# Altium footprint library TerminalBlock_Phoenix.PcbLib: 114 footprints (part 4 of 8)
Each footprint in its own frame and in the unit in brackets; x right, y up, seen from the top. Pads: shape width x height; smd on the part's side, far side on the other; paste and mask are expansions set on the pad; w line width, h text height; cw(c..) or ccw(c..) is an arc to the next point about the centre after c.
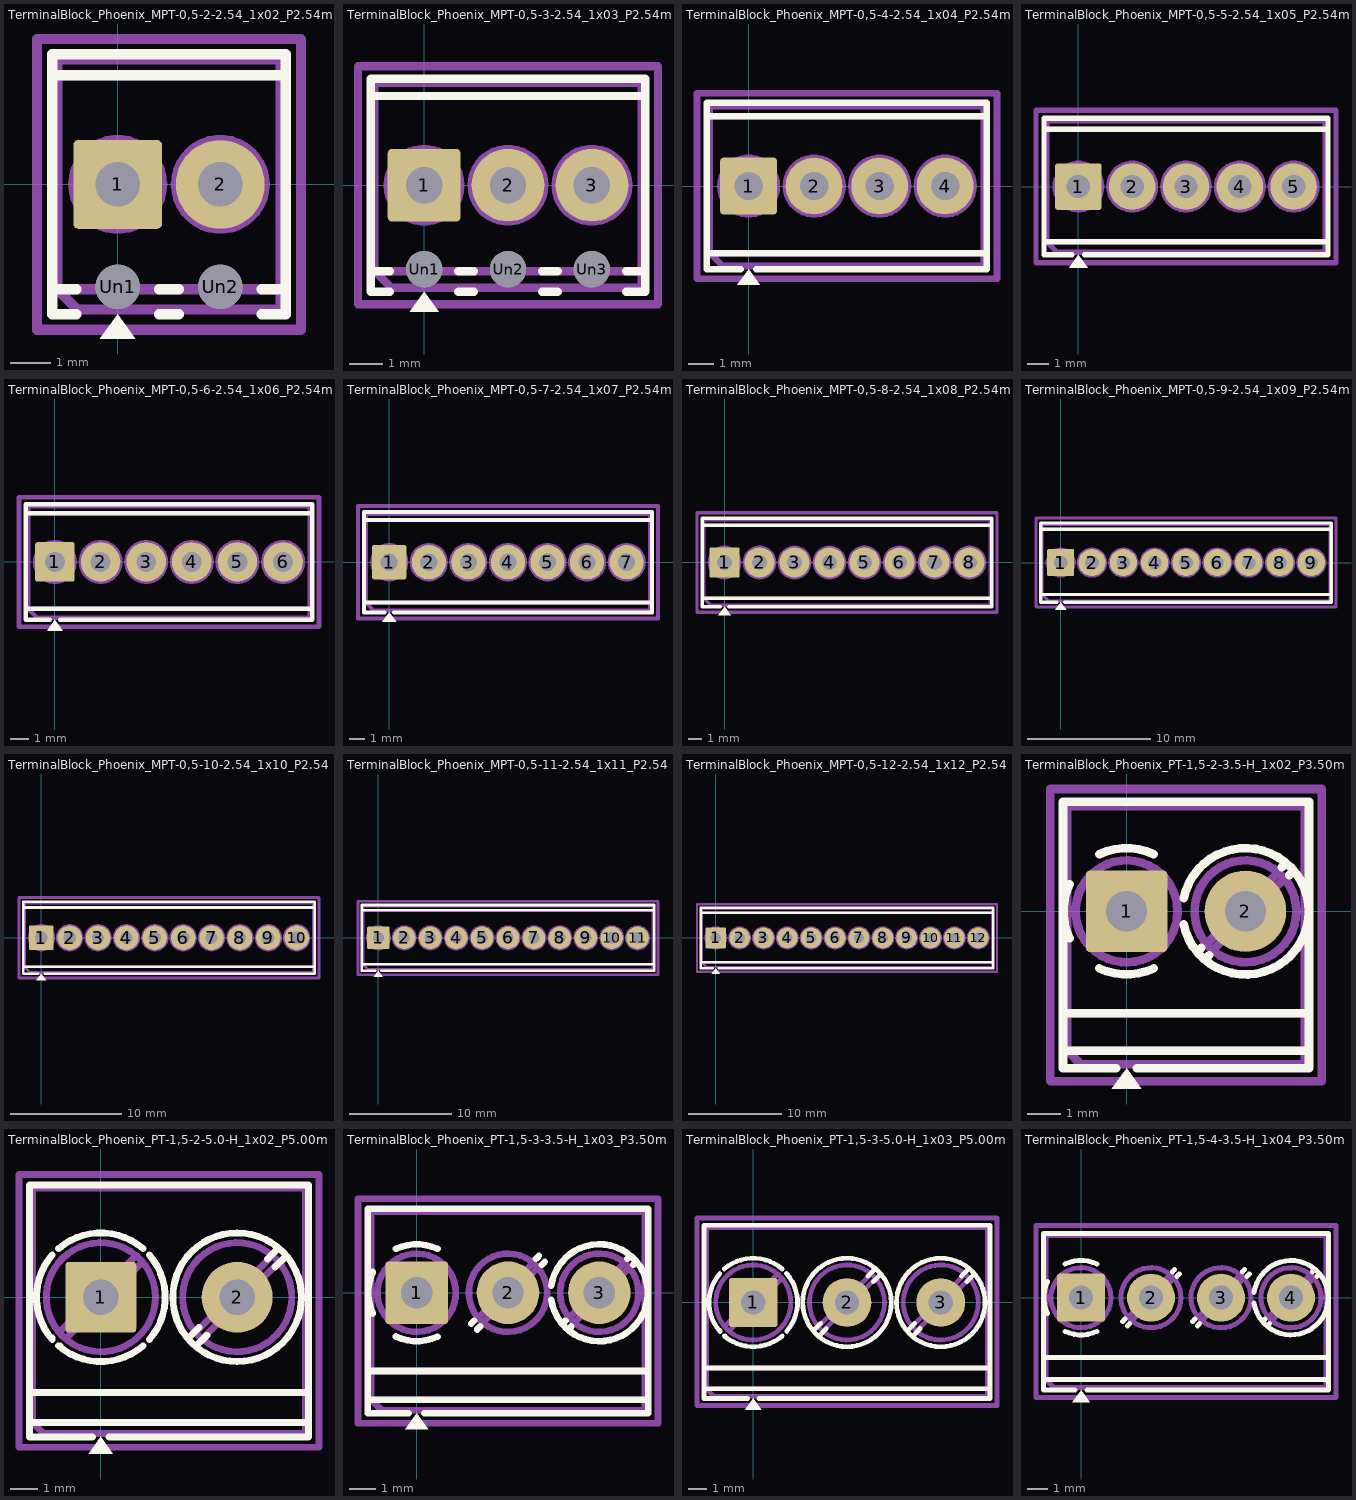
[diagram p3: the footprints below, top view; thin cyan lines are the x and y axes]

## TerminalBlock_Phoenix_MPT-0,5-2-2.54_1x02_P2.54mm_Horizontal [mm]
pads (4):
  rrect11% 2.2x2.2 hole 1.1: 1(0,0)
  round 2.2 hole 1.1: 2(2.54,0)
  round 1.1 hole 1.1: Un1(0,-2.54) Un2(2.54,-2.54)
F.SilkS:
  region: 0.44,-3.83 -0.44,-3.83 0,-3.22
  lines w0.254: -1.62,-2.6 -1.03,-2.6 ; -1.62,2.7 4.16,2.7 ; -1.03,-3.22 -1.62,-3.22 -1.62,3.22 4.16,3.22 4.16,-3.22 3.57,-3.22 ; 1.03,-3.22 1.51,-3.22 ; 1.03,-2.6 1.51,-2.6 ; 3.57,-2.6 4.16,-2.6
F.CrtYd:
  lines w0.254: -2,-3.6 -2,3.6 4.54,3.6 4.54,-3.6 -2,-3.6
F.Fab:
  circle w0.254: c0,0 r1.1
  circle w0.254: c2.54,0 r1.1
  lines w0.254: -1.5,2.7 4.04,2.7 ; -0.834,-0.7 0.7,0.834 ; -0.7,-0.834 0.834,0.7 ; 1.706,-0.7 3.24,0.834 ; 1.84,-0.834 3.374,0.7 ; 4.04,-2.6 -1.5,-2.6 ; -1.5,-2.6 -1.5,3.1 4.04,3.1 4.04,-3.1 -1,-3.1 -1.5,-2.6
  text "'.Designator'" at -0.169,-2.398 h1

## TerminalBlock_Phoenix_MPT-0,5-3-2.54_1x03_P2.54mm_Horizontal [mm]
pads (6):
  rrect11% 2.2x2.2 hole 1.1: 1(0,0)
  round 2.2 hole 1.1: 2(2.54,0) 3(5.08,0)
  round 1.1 hole 1.1: Un1(0,-2.54) Un2(2.54,-2.54) Un3(5.08,-2.54)
F.SilkS:
  region: 0.44,-3.83 -0.44,-3.83 0,-3.22
  lines w0.254: -1.62,-2.6 -1.03,-2.6 ; -1.62,2.7 6.7,2.7 ; -1.03,-3.22 -1.62,-3.22 -1.62,3.22 6.7,3.22 6.7,-3.22 6.11,-3.22 ; 1.03,-3.22 1.51,-3.22 ; 1.03,-2.6 1.51,-2.6 ; 3.57,-3.22 4.05,-3.22 ; 3.57,-2.6 4.05,-2.6 ; 6.11,-2.6 6.7,-2.6
F.CrtYd:
  lines w0.254: -2,-3.6 -2,3.6 7.08,3.6 7.08,-3.6 -2,-3.6
F.Fab:
  circle w0.254: c0,0 r1.1
  circle w0.254: c2.54,0 r1.1
  circle w0.254: c5.08,0 r1.1
  lines w0.254: -1.5,2.7 6.58,2.7 ; -0.834,-0.7 0.7,0.834 ; -0.7,-0.834 0.834,0.7 ; 1.706,-0.7 3.24,0.834 ; 1.84,-0.834 3.374,0.7 ; 4.246,-0.7 5.78,0.834 ; 4.38,-0.834 5.914,0.7 ; 6.58,-2.6 -1.5,-2.6 ; -1.5,-2.6 -1.5,3.1 6.58,3.1 6.58,-3.1 -1,-3.1 -1.5,-2.6
  text "'.Designator'" at 1.101,-2.398 h1

## TerminalBlock_Phoenix_MPT-0,5-4-2.54_1x04_P2.54mm_Horizontal [mm]
pads (4):
  rrect11% 2.2x2.2 hole 1.1: 1(0,0)
  round 2.2 hole 1.1: 2(2.54,0) 3(5.08,0) 4(7.62,0)
F.SilkS:
  region: 0.44,-3.83 -0.44,-3.83 0,-3.22
  lines w0.254: -1.62,-2.6 9.24,-2.6 ; -1.62,2.7 9.24,2.7 ; -0.3,-3.22 -1.62,-3.22 -1.62,3.22 9.24,3.22 9.24,-3.22 0.3,-3.22
F.CrtYd:
  lines w0.254: -2,-3.6 -2,3.6 9.63,3.6 9.63,-3.6 -2,-3.6
F.Fab:
  circle w0.254: c0,0 r1.1
  circle w0.254: c2.54,0 r1.1
  circle w0.254: c5.08,0 r1.1
  circle w0.254: c7.62,0 r1.1
  lines w0.254: -1.5,2.7 9.12,2.7 ; -0.834,-0.7 0.7,0.834 ; -0.7,-0.834 0.834,0.7 ; 1.706,-0.7 3.24,0.834 ; 1.84,-0.834 3.374,0.7 ; 4.246,-0.7 5.78,0.834 ; 4.38,-0.834 5.914,0.7 ; 6.786,-0.7 8.32,0.834 ; 6.92,-0.834 8.454,0.7 ; 9.12,-2.6 -1.5,-2.6 ; -1.5,-2.6 -1.5,3.1 9.12,3.1 9.12,-3.1 -1,-3.1 -1.5,-2.6
  text "'.Designator'" at 2.371,-2.398 h1

## TerminalBlock_Phoenix_MPT-0,5-5-2.54_1x05_P2.54mm_Horizontal [mm]
pads (5):
  rrect11% 2.2x2.2 hole 1.1: 1(0,0)
  round 2.2 hole 1.1: 2(2.54,0) 3(5.08,0) 4(7.62,0) 5(10.16,0)
F.SilkS:
  region: 0.44,-3.83 -0.44,-3.83 0,-3.22
  lines w0.254: -1.62,-2.6 11.78,-2.6 ; -1.62,2.7 11.78,2.7 ; -0.3,-3.22 -1.62,-3.22 -1.62,3.22 11.78,3.22 11.78,-3.22 0.3,-3.22
F.CrtYd:
  lines w0.254: -2,-3.6 -2,3.6 12.16,3.6 12.16,-3.6 -2,-3.6
F.Fab:
  circle w0.254: c0,0 r1.1
  circle w0.254: c2.54,0 r1.1
  circle w0.254: c5.08,0 r1.1
  circle w0.254: c7.62,0 r1.1
  circle w0.254: c10.16,0 r1.1
  lines w0.254: -1.5,2.7 11.66,2.7 ; -0.834,-0.7 0.7,0.834 ; -0.7,-0.834 0.834,0.7 ; 1.706,-0.7 3.24,0.834 ; 1.84,-0.834 3.374,0.7 ; 4.246,-0.7 5.78,0.834 ; 4.38,-0.834 5.914,0.7 ; 6.786,-0.7 8.32,0.834 ; 6.92,-0.834 8.454,0.7 ; 9.326,-0.7 10.86,0.834 ; 9.46,-0.834 10.994,0.7 ; 11.66,-2.6 -1.5,-2.6 ; -1.5,-2.6 -1.5,3.1 11.66,3.1 11.66,-3.1 -1,-3.1 -1.5,-2.6
  text "'.Designator'" at 3.641,-2.398 h1

## TerminalBlock_Phoenix_MPT-0,5-6-2.54_1x06_P2.54mm_Horizontal [mm]
pads (6):
  rrect11% 2.2x2.2 hole 1.1: 1(0,0)
  round 2.2 hole 1.1: 2(2.54,0) 3(5.08,0) 4(7.62,0) 5(10.16,0) 6(12.7,0)
F.SilkS:
  region: 0.44,-3.83 -0.44,-3.83 0,-3.22
  lines w0.254: -1.62,-2.6 14.32,-2.6 ; -1.62,2.7 14.32,2.7 ; -0.3,-3.22 -1.62,-3.22 -1.62,3.22 14.32,3.22 14.32,-3.22 0.3,-3.22
F.CrtYd:
  lines w0.254: -2,-3.6 -2,3.6 14.7,3.6 14.7,-3.6 -2,-3.6
F.Fab:
  circle w0.254: c0,0 r1.1
  circle w0.254: c2.54,0 r1.1
  circle w0.254: c5.08,0 r1.1
  circle w0.254: c7.62,0 r1.1
  circle w0.254: c10.16,0 r1.1
  circle w0.254: c12.7,0 r1.1
  lines w0.254: -1.5,2.7 14.2,2.7 ; -0.834,-0.7 0.7,0.834 ; -0.7,-0.834 0.834,0.7 ; 1.706,-0.7 3.24,0.834 ; 1.84,-0.834 3.374,0.7 ; 4.246,-0.7 5.78,0.834 ; 4.38,-0.834 5.914,0.7 ; 6.786,-0.7 8.32,0.834 ; 6.92,-0.834 8.454,0.7 ; 9.326,-0.7 10.86,0.834 ; 9.46,-0.834 10.994,0.7 ; 11.866,-0.7 13.4,0.834 ; 12,-0.834 13.534,0.7 ; 14.2,-2.6 -1.5,-2.6 ; -1.5,-2.6 -1.5,3.1 14.2,3.1 14.2,-3.1 -1,-3.1 -1.5,-2.6
  text "'.Designator'" at 4.911,-2.398 h1

## TerminalBlock_Phoenix_MPT-0,5-7-2.54_1x07_P2.54mm_Horizontal [mm]
pads (7):
  rrect11% 2.2x2.2 hole 1.1: 1(0,0)
  round 2.2 hole 1.1: 2(2.54,0) 3(5.08,0) 4(7.62,0) 5(10.16,0) 6(12.7,0) 7(15.24,0)
F.SilkS:
  region: 0.44,-3.83 -0.44,-3.83 0,-3.22
  lines w0.254: -1.62,-2.6 16.86,-2.6 ; -1.62,2.7 16.86,2.7 ; -0.3,-3.22 -1.62,-3.22 -1.62,3.22 16.86,3.22 16.86,-3.22 0.3,-3.22
F.CrtYd:
  lines w0.254: -2,-3.6 -2,3.6 17.25,3.6 17.25,-3.6 -2,-3.6
F.Fab:
  circle w0.254: c0,0 r1.1
  circle w0.254: c2.54,0 r1.1
  circle w0.254: c5.08,0 r1.1
  circle w0.254: c7.62,0 r1.1
  circle w0.254: c10.16,0 r1.1
  circle w0.254: c12.7,0 r1.1
  circle w0.254: c15.24,0 r1.1
  lines w0.254: -1.5,2.7 16.74,2.7 ; -0.834,-0.7 0.7,0.834 ; -0.7,-0.834 0.834,0.7 ; 1.706,-0.7 3.24,0.834 ; 1.84,-0.834 3.374,0.7 ; 4.246,-0.7 5.78,0.834 ; 4.38,-0.834 5.914,0.7 ; 6.786,-0.7 8.32,0.834 ; 6.92,-0.834 8.454,0.7 ; 9.326,-0.7 10.86,0.834 ; 9.46,-0.834 10.994,0.7 ; 11.866,-0.7 13.4,0.834 ; 12,-0.834 13.534,0.7 ; 14.406,-0.7 15.94,0.834 ; 14.54,-0.834 16.074,0.7 ; 16.74,-2.6 -1.5,-2.6 ; -1.5,-2.6 -1.5,3.1 16.74,3.1 16.74,-3.1 -1,-3.1 -1.5,-2.6
  text "'.Designator'" at 6.181,-2.398 h1

## TerminalBlock_Phoenix_MPT-0,5-8-2.54_1x08_P2.54mm_Horizontal [mm]
pads (8):
  rrect11% 2.2x2.2 hole 1.1: 1(0,0)
  round 2.2 hole 1.1: 2(2.54,0) 3(5.08,0) 4(7.62,0) 5(10.16,0) 6(12.7,0) 7(15.24,0) 8(17.78,0)
F.SilkS:
  region: 0.44,-3.83 -0.44,-3.83 0,-3.22
  lines w0.254: -1.62,-2.6 19.4,-2.6 ; -1.62,2.7 19.4,2.7 ; -0.3,-3.22 -1.62,-3.22 -1.62,3.22 19.4,3.22 19.4,-3.22 0.3,-3.22
F.CrtYd:
  lines w0.254: -2,-3.6 -2,3.6 19.78,3.6 19.78,-3.6 -2,-3.6
F.Fab:
  circle w0.254: c0,0 r1.1
  circle w0.254: c2.54,0 r1.1
  circle w0.254: c5.08,0 r1.1
  circle w0.254: c7.62,0 r1.1
  circle w0.254: c10.16,0 r1.1
  circle w0.254: c12.7,0 r1.1
  circle w0.254: c15.24,0 r1.1
  circle w0.254: c17.78,0 r1.1
  lines w0.254: -1.5,2.7 19.28,2.7 ; -0.834,-0.7 0.7,0.834 ; -0.7,-0.834 0.834,0.7 ; 1.706,-0.7 3.24,0.834 ; 1.84,-0.834 3.374,0.7 ; 4.246,-0.7 5.78,0.834 ; 4.38,-0.834 5.914,0.7 ; 6.786,-0.7 8.32,0.834 ; 6.92,-0.834 8.454,0.7 ; 9.326,-0.7 10.86,0.834 ; 9.46,-0.834 10.994,0.7 ; 11.866,-0.7 13.4,0.834 ; 12,-0.834 13.534,0.7 ; 14.406,-0.7 15.94,0.834 ; 14.54,-0.834 16.074,0.7 ; 16.946,-0.7 18.48,0.834 ; 17.08,-0.834 18.614,0.7 ; 19.28,-2.6 -1.5,-2.6 ; -1.5,-2.6 -1.5,3.1 19.28,3.1 19.28,-3.1 -1,-3.1 -1.5,-2.6
  text "'.Designator'" at 7.451,-2.398 h1

## TerminalBlock_Phoenix_MPT-0,5-9-2.54_1x09_P2.54mm_Horizontal [mm]
pads (9):
  rrect11% 2.2x2.2 hole 1.1: 1(0,0)
  round 2.2 hole 1.1: 2(2.54,0) 3(5.08,0) 4(7.62,0) 5(10.16,0) 6(12.7,0) 7(15.24,0) 8(17.78,0) 9(20.32,0)
F.SilkS:
  region: 0.44,-3.83 -0.44,-3.83 0,-3.22
  lines w0.254: -1.62,-2.6 21.94,-2.6 ; -1.62,2.7 21.94,2.7 ; -0.3,-3.22 -1.62,-3.22 -1.62,3.22 21.94,3.22 21.94,-3.22 0.3,-3.22
F.CrtYd:
  lines w0.254: -2,-3.6 -2,3.6 22.32,3.6 22.32,-3.6 -2,-3.6
F.Fab:
  circle w0.254: c0,0 r1.1
  circle w0.254: c2.54,0 r1.1
  circle w0.254: c5.08,0 r1.1
  circle w0.254: c7.62,0 r1.1
  circle w0.254: c10.16,0 r1.1
  circle w0.254: c12.7,0 r1.1
  circle w0.254: c15.24,0 r1.1
  circle w0.254: c17.78,0 r1.1
  circle w0.254: c20.32,0 r1.1
  lines w0.254: -1.5,2.7 21.82,2.7 ; -0.834,-0.7 0.7,0.834 ; -0.7,-0.834 0.834,0.7 ; 1.706,-0.7 3.24,0.834 ; 1.84,-0.834 3.374,0.7 ; 4.246,-0.7 5.78,0.834 ; 4.38,-0.834 5.914,0.7 ; 6.786,-0.7 8.32,0.834 ; 6.92,-0.834 8.454,0.7 ; 9.326,-0.7 10.86,0.834 ; 9.46,-0.834 10.994,0.7 ; 11.866,-0.7 13.4,0.834 ; 12,-0.834 13.534,0.7 ; 14.406,-0.7 15.94,0.834 ; 14.54,-0.834 16.074,0.7 ; 16.946,-0.7 18.48,0.834 ; 17.08,-0.834 18.614,0.7 ; 19.486,-0.7 21.02,0.834 ; 19.62,-0.834 21.154,0.7 ; 21.82,-2.6 -1.5,-2.6 ; -1.5,-2.6 -1.5,3.1 21.82,3.1 21.82,-3.1 -1,-3.1 -1.5,-2.6
  text "'.Designator'" at 8.721,-2.398 h1

## TerminalBlock_Phoenix_MPT-0,5-10-2.54_1x10_P2.54mm_Horizontal [mm]
pads (10):
  rrect11% 2.2x2.2 hole 1.1: 1(0,0)
  round 2.2 hole 1.1: 2(2.54,0) 3(5.08,0) 4(7.62,0) 5(10.16,0) 6(12.7,0) 7(15.24,0) 8(17.78,0) 9(20.32,0) 10(22.86,0)
F.SilkS:
  region: 0.44,-3.83 -0.44,-3.83 0,-3.22
  lines w0.254: -1.62,-2.6 24.48,-2.6 ; -1.62,2.7 24.48,2.7 ; -0.3,-3.22 -1.62,-3.22 -1.62,3.22 24.48,3.22 24.48,-3.22 0.3,-3.22
F.CrtYd:
  lines w0.254: -2,-3.6 -2,3.6 24.86,3.6 24.86,-3.6 -2,-3.6
F.Fab:
  circle w0.254: c0,0 r1.1
  circle w0.254: c2.54,0 r1.1
  circle w0.254: c5.08,0 r1.1
  circle w0.254: c7.62,0 r1.1
  circle w0.254: c10.16,0 r1.1
  circle w0.254: c12.7,0 r1.1
  circle w0.254: c15.24,0 r1.1
  circle w0.254: c17.78,0 r1.1
  circle w0.254: c20.32,0 r1.1
  circle w0.254: c22.86,0 r1.1
  lines w0.254: -1.5,2.7 24.36,2.7 ; -0.834,-0.7 0.7,0.834 ; -0.7,-0.834 0.834,0.7 ; 1.706,-0.7 3.24,0.834 ; 1.84,-0.834 3.374,0.7 ; 4.246,-0.7 5.78,0.834 ; 4.38,-0.834 5.914,0.7 ; 6.786,-0.7 8.32,0.834 ; 6.92,-0.834 8.454,0.7 ; 9.326,-0.7 10.86,0.834 ; 9.46,-0.834 10.994,0.7 ; 11.866,-0.7 13.4,0.834 ; 12,-0.834 13.534,0.7 ; 14.406,-0.7 15.94,0.834 ; 14.54,-0.834 16.074,0.7 ; 16.946,-0.7 18.48,0.834 ; 17.08,-0.834 18.614,0.7 ; 19.486,-0.7 21.02,0.834 ; 19.62,-0.834 21.154,0.7 ; 22.026,-0.7 23.56,0.834 ; 22.16,-0.834 23.694,0.7 ; 24.36,-2.6 -1.5,-2.6 ; -1.5,-2.6 -1.5,3.1 24.36,3.1 24.36,-3.1 -1,-3.1 -1.5,-2.6
  text "'.Designator'" at 9.991,-2.398 h1

## TerminalBlock_Phoenix_MPT-0,5-11-2.54_1x11_P2.54mm_Horizontal [mm]
pads (11):
  rrect11% 2.2x2.2 hole 1.1: 1(0,0)
  round 2.2 hole 1.1: 2(2.54,0) 3(5.08,0) 4(7.62,0) 5(10.16,0) 6(12.7,0) 7(15.24,0) 8(17.78,0) 9(20.32,0) 10(22.86,0) 11(25.4,0)
F.SilkS:
  region: 0.44,-3.83 -0.44,-3.83 0,-3.22
  lines w0.254: -1.62,-2.6 27.02,-2.6 ; -1.62,2.7 27.02,2.7 ; -0.3,-3.22 -1.62,-3.22 -1.62,3.22 27.02,3.22 27.02,-3.22 0.3,-3.22
F.CrtYd:
  lines w0.254: -2,-3.6 -2,3.6 27.4,3.6 27.4,-3.6 -2,-3.6
F.Fab:
  circle w0.254: c0,0 r1.1
  circle w0.254: c2.54,0 r1.1
  circle w0.254: c5.08,0 r1.1
  circle w0.254: c7.62,0 r1.1
  circle w0.254: c10.16,0 r1.1
  circle w0.254: c12.7,0 r1.1
  circle w0.254: c15.24,0 r1.1
  circle w0.254: c17.78,0 r1.1
  circle w0.254: c20.32,0 r1.1
  circle w0.254: c22.86,0 r1.1
  circle w0.254: c25.4,0 r1.1
  lines w0.254: -1.5,2.7 26.9,2.7 ; -0.834,-0.7 0.7,0.834 ; -0.7,-0.834 0.834,0.7 ; 1.706,-0.7 3.24,0.834 ; 1.84,-0.834 3.374,0.7 ; 4.246,-0.7 5.78,0.834 ; 4.38,-0.834 5.914,0.7 ; 6.786,-0.7 8.32,0.834 ; 6.92,-0.834 8.454,0.7 ; 9.326,-0.7 10.86,0.834 ; 9.46,-0.834 10.994,0.7 ; 11.866,-0.7 13.4,0.834 ; 12,-0.834 13.534,0.7 ; 14.406,-0.7 15.94,0.834 ; 14.54,-0.834 16.074,0.7 ; 16.946,-0.7 18.48,0.834 ; 17.08,-0.834 18.614,0.7 ; 19.486,-0.7 21.02,0.834 ; 19.62,-0.834 21.154,0.7 ; 22.026,-0.7 23.56,0.834 ; 22.16,-0.834 23.694,0.7 ; 24.566,-0.7 26.1,0.834 ; 24.7,-0.834 26.234,0.7 ; 26.9,-2.6 -1.5,-2.6 ; -1.5,-2.6 -1.5,3.1 26.9,3.1 26.9,-3.1 -1,-3.1 -1.5,-2.6
  text "'.Designator'" at 11.261,-2.398 h1

## TerminalBlock_Phoenix_MPT-0,5-12-2.54_1x12_P2.54mm_Horizontal [mm]
pads (12):
  rrect11% 2.2x2.2 hole 1.1: 1(0,0)
  round 2.2 hole 1.1: 2(2.54,0) 3(5.08,0) 4(7.62,0) 5(10.16,0) 6(12.7,0) 7(15.24,0) 8(17.78,0) 9(20.32,0) 10(22.86,0) 11(25.4,0) 12(27.94,0)
F.SilkS:
  region: 0.44,-3.83 -0.44,-3.83 0,-3.22
  lines w0.254: -1.62,-2.6 29.56,-2.6 ; -1.62,2.7 29.56,2.7 ; -0.3,-3.22 -1.62,-3.22 -1.62,3.22 29.56,3.22 29.56,-3.22 0.3,-3.22
F.CrtYd:
  lines w0.254: -2,-3.6 -2,3.6 29.94,3.6 29.94,-3.6 -2,-3.6
F.Fab:
  circle w0.254: c0,0 r1.1
  circle w0.254: c2.54,0 r1.1
  circle w0.254: c5.08,0 r1.1
  circle w0.254: c7.62,0 r1.1
  circle w0.254: c10.16,0 r1.1
  circle w0.254: c12.7,0 r1.1
  circle w0.254: c15.24,0 r1.1
  circle w0.254: c17.78,0 r1.1
  circle w0.254: c20.32,0 r1.1
  circle w0.254: c22.86,0 r1.1
  circle w0.254: c25.4,0 r1.1
  circle w0.254: c27.94,0 r1.1
  lines w0.254: -1.5,2.7 29.44,2.7 ; -0.834,-0.7 0.7,0.834 ; -0.7,-0.834 0.834,0.7 ; 1.706,-0.7 3.24,0.834 ; 1.84,-0.834 3.374,0.7 ; 4.246,-0.7 5.78,0.834 ; 4.38,-0.834 5.914,0.7 ; 6.786,-0.7 8.32,0.834 ; 6.92,-0.834 8.454,0.7 ; 9.326,-0.7 10.86,0.834 ; 9.46,-0.834 10.994,0.7 ; 11.866,-0.7 13.4,0.834 ; 12,-0.834 13.534,0.7 ; 14.406,-0.7 15.94,0.834 ; 14.54,-0.834 16.074,0.7 ; 16.946,-0.7 18.48,0.834 ; 17.08,-0.834 18.614,0.7 ; 19.486,-0.7 21.02,0.834 ; 19.62,-0.834 21.154,0.7 ; 22.026,-0.7 23.56,0.834 ; 22.16,-0.834 23.694,0.7 ; 24.566,-0.7 26.1,0.834 ; 24.7,-0.834 26.234,0.7 ; 27.106,-0.7 28.64,0.834 ; 27.24,-0.834 28.774,0.7 ; 29.44,-2.6 -1.5,-2.6 ; -1.5,-2.6 -1.5,3.1 29.44,3.1 29.44,-3.1 -1,-3.1 -1.5,-2.6
  text "'.Designator'" at 12.531,-2.398 h1

## TerminalBlock_Phoenix_PT-1,5-2-3.5-H_1x02_P3.50mm_Horizontal [mm]
pads (2):
  rrect10% 2.4x2.4 hole 1.2: 1(0,0)
  round 2.4 hole 1.2: 2(3.5,0)
F.SilkS:
  region: 0.44,-5.23 -0.44,-5.23 0,-4.62
  lines w0.254: -1.87,-4.1 5.37,-4.1 ; -1.87,-3 5.37,-3 ; -1.68,-0.798 cw(c0,0) -1.68,0.798 ; -0.798,-1.68 ccw(c0,0) 0.798,-1.68 ; -0.798,1.68 cw(c0,0) 0.798,1.68 ; -0.3,-4.62 -1.87,-4.62 -1.87,3.22 5.37,3.22 5.37,-4.62 0.3,-4.62 ; 1.68,-0.383 ccw(c3.5,0) 1.68,0.384 ; 2.089,-1.183 2.204,-1.069 ; 2.316,-1.41 2.431,-1.296 ; 4.569,1.296 4.684,1.411 ; 4.796,1.069 4.911,1.184
F.CrtYd:
  lines w0.254: -2.25,-5 -2.25,3.6 5.75,3.6 5.75,-5 -2.25,-5
F.Fab:
  circle w0.254: c0,0 r1.5
  circle w0.254: c3.5,0 r1.5
  lines w0.254: -1.75,-3 5.25,-3 ; -1.138,-0.954 0.955,1.138 ; -0.955,-1.137 1.138,0.954 ; 2.362,-0.954 4.455,1.138 ; 2.545,-1.137 4.638,0.954 ; 5.25,-4.1 -1.75,-4.1 ; -1.75,-4.1 -1.75,3.1 5.25,3.1 5.25,-4.5 -1.35,-4.5 -1.75,-4.1
  text "'.Designator'" at 0.311,-2.798 h1

## TerminalBlock_Phoenix_PT-1,5-2-5.0-H_1x02_P5.00mm_Horizontal [mm]
pads (2):
  rrect10% 2.6x2.6 hole 1.3: 1(0,0)
  round 2.6 hole 1.3: 2(5,0)
F.SilkS:
  circle w0.254: c5,0 r2.36
  region: 0.44,-5.73 -0.44,-5.73 0,-5.12
  lines w0.254: -2.62,-4.6 7.62,-4.6 ; -2.62,-3.5 7.62,-3.5 ; -1.79,-1.502 -1.78,-1.491 ; -1.78,-1.55 cw(c0,0) -1.78,1.55 ; -1.55,-1.78 ccw(c0,0) 1.55,-1.78 ; -1.55,1.78 cw(c0,0) 1.55,1.78 ; -1.502,-1.79 -1.493,-1.78 ; -0.3,-5.12 -2.62,-5.12 -2.62,4.12 7.62,4.12 7.62,-5.12 0.3,-5.12 ; 1.78,-1.55 ccw(c0,0) 1.78,1.55 ; 3.21,-1.502 3.605,-1.106 ; 3.498,-1.79 3.893,-1.394 ; 6.106,1.394 6.502,1.79 ; 6.394,1.106 6.79,1.502
F.CrtYd:
  lines w0.254: -3,-5.5 -3,4.5 8,4.5 8,-5.5 -3,-5.5
F.Fab:
  circle w0.254: c0,0 r2
  circle w0.254: c5,0 r2
  lines w0.254: -2.5,-3.5 7.5,-3.5 ; -1.517,-1.272 1.273,1.517 ; -1.273,-1.517 1.517,1.273 ; 3.483,-1.272 6.273,1.517 ; 3.727,-1.517 6.517,1.273 ; 7.5,-4.6 -2.5,-4.6 ; -2.5,-4.6 -2.5,4 7.5,4 7.5,-5 -2.1,-5 -2.5,-4.6
  text "'.Designator'" at 1.061,-3.298 h1

## TerminalBlock_Phoenix_PT-1,5-3-3.5-H_1x03_P3.50mm_Horizontal [mm]
pads (3):
  rrect10% 2.4x2.4 hole 1.2: 1(0,0)
  round 2.4 hole 1.2: 2(3.5,0) 3(7,0)
F.SilkS:
  region: 0.44,-5.23 -0.44,-5.23 0,-4.62
  lines w0.254: -1.87,-4.1 8.87,-4.1 ; -1.87,-3 8.87,-3 ; -1.68,-0.798 cw(c0,0) -1.68,0.798 ; -0.798,-1.68 ccw(c0,0) 0.798,-1.68 ; -0.798,1.68 cw(c0,0) 0.798,1.68 ; -0.3,-4.62 -1.87,-4.62 -1.87,3.22 8.87,3.22 8.87,-4.62 0.3,-4.62 ; 2.089,-1.183 2.204,-1.069 ; 2.316,-1.41 2.431,-1.296 ; 4.569,1.296 4.684,1.411 ; 4.796,1.069 4.911,1.184 ; 5.159,-0.265 ccw(c7,0) 5.159,0.265 ; 5.589,-1.183 5.704,-1.069 ; 5.816,-1.41 5.931,-1.296 ; 8.069,1.296 8.184,1.411 ; 8.296,1.069 8.411,1.184
F.CrtYd:
  lines w0.254: -2.25,-5 -2.25,3.6 9.25,3.6 9.25,-5 -2.25,-5
F.Fab:
  circle w0.254: c0,0 r1.5
  circle w0.254: c3.5,0 r1.5
  circle w0.254: c7,0 r1.5
  lines w0.254: -1.75,-3 8.75,-3 ; -1.138,-0.954 0.955,1.138 ; -0.955,-1.137 1.138,0.954 ; 2.362,-0.954 4.455,1.138 ; 2.545,-1.137 4.638,0.954 ; 5.862,-0.954 7.955,1.138 ; 6.045,-1.137 8.138,0.954 ; 8.75,-4.1 -1.75,-4.1 ; -1.75,-4.1 -1.75,3.1 8.75,3.1 8.75,-4.5 -1.35,-4.5 -1.75,-4.1
  text "'.Designator'" at 2.061,-2.798 h1

## TerminalBlock_Phoenix_PT-1,5-3-5.0-H_1x03_P5.00mm_Horizontal [mm]
pads (3):
  rrect10% 2.6x2.6 hole 1.3: 1(0,0)
  round 2.6 hole 1.3: 2(5,0) 3(10,0)
F.SilkS:
  circle w0.254: c5,0 r2.36
  circle w0.254: c10,0 r2.36
  region: 0.44,-5.73 -0.44,-5.73 0,-5.12
  lines w0.254: -2.62,-4.6 12.62,-4.6 ; -2.62,-3.5 12.62,-3.5 ; -1.79,-1.502 -1.78,-1.491 ; -1.78,-1.55 cw(c0,0) -1.78,1.55 ; -1.55,-1.78 ccw(c0,0) 1.55,-1.78 ; -1.55,1.78 cw(c0,0) 1.55,1.78 ; -1.502,-1.79 -1.493,-1.78 ; -0.3,-5.12 -2.62,-5.12 -2.62,4.12 12.62,4.12 12.62,-5.12 0.3,-5.12 ; 1.78,-1.55 ccw(c0,0) 1.78,1.55 ; 3.21,-1.502 3.605,-1.106 ; 3.498,-1.79 3.893,-1.394 ; 6.106,1.394 6.502,1.79 ; 6.394,1.106 6.79,1.502 ; 8.21,-1.502 8.605,-1.106 ; 8.498,-1.79 8.893,-1.394 ; 11.106,1.394 11.502,1.79 ; 11.394,1.106 11.79,1.502
F.CrtYd:
  lines w0.254: -3,-5.5 -3,4.5 13,4.5 13,-5.5 -3,-5.5
F.Fab:
  circle w0.254: c0,0 r2
  circle w0.254: c5,0 r2
  circle w0.254: c10,0 r2
  lines w0.254: -2.5,-3.5 12.5,-3.5 ; -1.517,-1.272 1.273,1.517 ; -1.273,-1.517 1.517,1.273 ; 3.483,-1.272 6.273,1.517 ; 3.727,-1.517 6.517,1.273 ; 8.483,-1.272 11.273,1.517 ; 8.727,-1.517 11.517,1.273 ; 12.5,-4.6 -2.5,-4.6 ; -2.5,-4.6 -2.5,4 12.5,4 12.5,-5 -2.1,-5 -2.5,-4.6
  text "'.Designator'" at 3.561,-3.298 h1

## TerminalBlock_Phoenix_PT-1,5-4-3.5-H_1x04_P3.50mm_Horizontal [mm]
pads (4):
  rrect10% 2.4x2.4 hole 1.2: 1(0,0)
  round 2.4 hole 1.2: 2(3.5,0) 3(7,0) 4(10.5,0)
F.SilkS:
  region: 0.44,-5.23 -0.44,-5.23 0,-4.62
  lines w0.254: -1.87,-4.1 12.37,-4.1 ; -1.87,-3 12.37,-3 ; -1.68,-0.798 cw(c0,0) -1.68,0.798 ; -0.798,-1.68 ccw(c0,0) 0.798,-1.68 ; -0.798,1.68 cw(c0,0) 0.798,1.68 ; -0.3,-4.62 -1.87,-4.62 -1.87,3.22 12.37,3.22 12.37,-4.62 0.3,-4.62 ; 2.089,-1.183 2.204,-1.069 ; 2.316,-1.41 2.431,-1.296 ; 4.569,1.296 4.684,1.411 ; 4.796,1.069 4.911,1.184 ; 5.589,-1.183 5.704,-1.069 ; 5.816,-1.41 5.931,-1.296 ; 8.069,1.296 8.184,1.411 ; 8.296,1.069 8.411,1.184 ; 8.659,-0.265 ccw(c10.5,0) 8.659,0.265 ; 9.089,-1.183 9.204,-1.069 ; 9.316,-1.41 9.431,-1.296 ; 11.569,1.296 11.684,1.411 ; 11.796,1.069 11.911,1.184
F.CrtYd:
  lines w0.254: -2.25,-5 -2.25,3.6 12.75,3.6 12.75,-5 -2.25,-5
F.Fab:
  circle w0.254: c0,0 r1.5
  circle w0.254: c3.5,0 r1.5
  circle w0.254: c7,0 r1.5
  circle w0.254: c10.5,0 r1.5
  lines w0.254: -1.75,-3 12.25,-3 ; -1.138,-0.954 0.955,1.138 ; -0.955,-1.137 1.138,0.954 ; 2.362,-0.954 4.455,1.138 ; 2.545,-1.137 4.638,0.954 ; 5.862,-0.954 7.955,1.138 ; 6.045,-1.137 8.138,0.954 ; 9.362,-0.954 11.455,1.138 ; 9.545,-1.137 11.638,0.954 ; 12.25,-4.1 -1.75,-4.1 ; -1.75,-4.1 -1.75,3.1 12.25,3.1 12.25,-4.5 -1.35,-4.5 -1.75,-4.1
  text "'.Designator'" at 3.811,-2.798 h1